# Altium schematic symbol library SMD Sensors.SchLib: 3 symbols
Pins are listed as number, name and electrical type; pins without a type are passive.

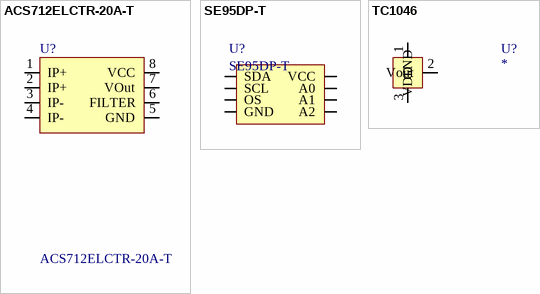
[diagram p0: symbols ACS712ELCTR-20A-T to TC1046]

## ACS712ELCTR-20A-T
designator U?
Hall Effect-Based Linear Current Sensor IC
footprint SO8 (SO8/SOT96-1, 8-Pin Plastic Small Outline Integrated Circuit 1.27 mm Pitch, IPC Medium Density)
footprint SOIC-8 (SOIC, 8-Leads, Body 5,0x4,0mm (max), Pitch 1,27mm, IPC Medium Density)
pins: 1 IP+, 2 IP+, 3 IP-, 4 IP-, 5 GND, 6 FILTER, 7 VOut, 8 VCC

## SE95DP-T
designator U?
Ultra high accuracy digital temperature sensor and thermal watchdog, NXP
footprint TSSOP-8 (TSOP, 8-Leads, Body 3,1x3,1mm (max), Pitch 0,65mm, IPC Medium Density)
pins: 1 SDA, 2 SCL, 3 OS, 4 GND, 5 A2, 6 A1, 7 A0, 8 VCC

## TC1046
designator U?
High Precision Temperatue to Voltage Converter, Microchip; Text Field1: High Precision Temperatue to Voltage Converter, Microchip; SOT23B: *
footprint SOT-23B (SOT23, 3-Leads, Body 3,0x2,6mm (max), Pitch 0,95mm, IPC High Density)
pins: 1 VDD, 2 Vout, 3 GND